# Altium footprint library 2019-12-12_14-39-05.PcbLib: 1 footprints
Each footprint in its own frame and in the unit in brackets; x right, y up, seen from the top. Pads: shape width x height; smd on the part's side, far side on the other; paste and mask are expansions set on the pad; w line width, h text height; cw(c..) or ccw(c..) is an arc to the next point about the centre after c.
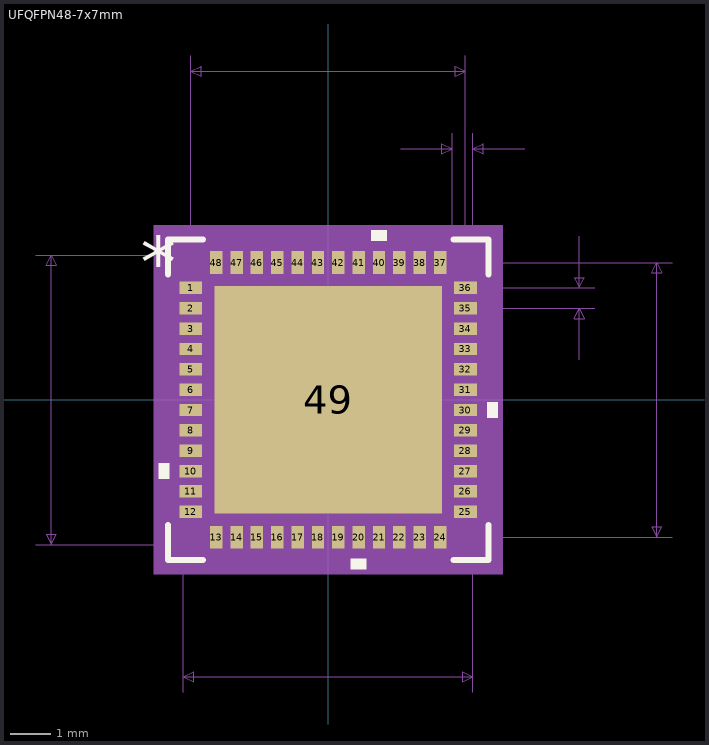
[diagram p0: the footprint, top view; thin cyan lines are the x and y axes]

## UFQFPN48-7x7mm [mil]
pads (49):
  rect 22x12 smd: 1(-132.87,108.3) 2(-132.87,88.61) 3(-132.87,68.92) 4(-132.87,49.23) 5(-132.87,29.54) 6(-132.87,9.85) 7(-132.87,-9.85) 8(-132.87,-29.54) 9(-132.87,-49.23) 10(-132.87,-68.92) 11(-132.87,-88.61) 12(-132.87,-108.3) 25(132.87,-108.3) 26(132.87,-88.61) 27(132.87,-68.92) 28(132.87,-49.23) 29(132.87,-29.54) 30(132.87,-9.85) 31(132.87,9.85) 32(132.87,29.54) 33(132.87,49.23) 34(132.87,68.92) 35(132.87,88.61) 36(132.87,108.3)
  rect 12x22 smd: 13(-108.3,-132.87) 14(-88.61,-132.87) 15(-68.92,-132.87) 16(-49.23,-132.87) 17(-29.54,-132.87) 18(-9.85,-132.87) 19(9.85,-132.87) 20(29.54,-132.87) 21(49.23,-132.87) 22(68.92,-132.87) 23(88.61,-132.87) 24(108.3,-132.87) 37(108.3,132.87) 38(88.61,132.87) 39(68.92,132.87) 40(49.23,132.87) 41(29.54,132.87) 42(9.85,132.87) 43(-9.85,132.87) 44(-29.54,132.87) 45(-49.23,132.87) 46(-68.92,132.87) 47(-88.61,132.87) 48(-108.3,132.87)
  rect 220x220 smd paste-110: 49(0,0)
Top Overlay:
  region: 56.73,153.87 41.73,153.87 41.73,163.87 56.73,163.87
  region: 153.87,-2.35 163.87,-2.35 163.87,-17.34 153.87,-17.34
  region: 37.03,-153.87 22.04,-153.87 22.04,-163.87 37.03,-163.87
  region: -153.87,-61.41 -163.87,-61.41 -163.87,-76.42 -153.87,-76.42
  lines w6: -155,-121.21 -155,-155 -121.21,-155 ; -155,121.21 -155,155 -121.21,155 ; 121.21,-155 155,-155 155,-121.21 ; 121.21,155 155,155 155,121.21
  text "*" at -181.37,108.14 h50
Top Paste:
  drawing of 64 lines, arcs and shapes, not listed
Top Solder:
  drawing of 48 lines, arcs and shapes, not listed
Mechanical 5:
  region: 168.87,-168.87 -168.87,-168.87 -168.87,168.87 168.87,168.87
Mechanical 7:
  lines w1: -282.87,-140 140,-140 ; -282.87,140 140,140 140,-282.87 ; -140,-282.87 -140,140 ; -132.87,108.3 -132.87,332.87 ; 70,242.87 120,242.87 ; 108.3,-132.87 332.87,-132.87 ; 108.3,132.87 332.87,132.87 ; 120,108.3 120,257.87 ; 132.87,88.61 257.87,88.61 ; 132.87,332.87 132.87,108.3 257.87,108.3 ; 140,108.3 140,257.87 ; 190,242.87 140,242.87 ; 242.87,38.6 242.87,88.61 ; 242.87,158.29 242.87,108.3 ; -267.87,-140 -262.87,-130 -272.87,-130 -267.87,-140 ; -267.87,-140 -267.87,140 ; -267.87,140 -262.87,130 -272.87,130 -267.87,140 ; -140,-267.87 -130,-272.87 -130,-262.87 -140,-267.87 ; -140,-267.87 140,-267.87 ; -132.87,317.87 -122.87,312.87 -122.87,322.87 -132.87,317.87 ; -132.87,317.87 132.87,317.87 ; 120,242.87 110,237.87 110,247.87 120,242.87 ; 132.87,317.87 122.87,312.87 122.87,322.87 132.87,317.87 ; 140,-267.87 130,-272.87 130,-262.87 140,-267.87 ; 140,242.87 150,237.87 150,247.87 140,242.87 ; 242.87,88.61 247.87,78.61 237.87,78.61 242.87,88.61 ; 242.87,108.3 247.87,118.3 237.87,118.3 242.87,108.3 ; 317.87,-132.87 322.87,-122.87 312.87,-122.87 317.87,-132.87 ; 317.87,-132.87 317.87,132.87 ; 317.87,132.87 322.87,122.87 312.87,122.87 317.87,132.87
  text "0.28in/7.112mm" at -87.5,-312.87 h25
  text "0.28in/7.112mm" at -462.87,-12.5 h25
  text "0.266in/6.75mm" at 337.87,-12.5 h25
  text "0.266in/6.75mm" at -87.5,337.87 h25
  text "0.02in/0.508mm" at 42.5,262.87 h25
  text "0.02in/0.5mm" at 262.87,85.95 h25
  text "Alt 2 Padstyle: OX90Y60D30P" at -337.5,-632.87 h50
  text "Alt 1 Padstyle: OX60Y90D30P" at -337.5,-572.87 h50
  text "Heat Tab Padstyle: RX220Y220D0T" at -387.5,-452.87 h50
  text "Default Padstyle: RX12Y22D0T" at -350,-392.87 h50
Mechanical 13:
  lines w1: -140,90 -90,140 ; -140,-140 -140,140 140,140 140,-140 -140,-140 ; -140,-114.3 -140,-102.3 -140,-114.3 ; -140,-94.61 -140,-82.61 -140,-94.61 ; -140,-74.92 -140,-62.91 -140,-74.92 ; -140,-55.23 -140,-43.23 -140,-55.23 ; -140,-35.53 -140,-23.54 -140,-35.53 ; -140,-15.85 -140,-3.85 -140,-15.85 ; -140,3.85 -140,15.85 -140,3.85 ; -140,23.54 -140,35.53 -140,23.54 ; -140,43.23 -140,55.23 -140,43.23 ; -140,62.91 -140,74.92 -140,62.91 ; -140,82.61 -140,94.61 -140,82.61 ; -140,102.3 -140,114.3 -140,102.3 ; -114.3,-140 -102.3,-140 -114.3,-140 ; -114.3,140 -102.3,140 -114.3,140 ; -94.61,-140 -82.61,-140 -94.61,-140 ; -94.61,140 -82.61,140 -94.61,140 ; -74.92,-140 -62.91,-140 -74.92,-140 ; -74.92,140 -62.91,140 -74.92,140 ; -55.23,-140 -43.23,-140 -55.23,-140 ; -55.23,140 -43.23,140 -55.23,140 ; -35.53,-140 -23.54,-140 -35.53,-140 ; -35.53,140 -23.54,140 -35.53,140 ; -15.85,-140 -3.85,-140 -15.85,-140 ; -15.85,140 -3.85,140 -15.85,140 ; 3.85,-140 15.85,-140 3.85,-140 ; 3.85,140 15.85,140 3.85,140 ; 23.54,-140 35.53,-140 23.54,-140 ; 23.54,140 35.53,140 23.54,140 ; 43.23,-140 55.23,-140 43.23,-140 ; 43.23,140 55.23,140 43.23,140 ; 62.91,-140 74.92,-140 62.91,-140 ; 62.91,140 74.92,140 62.91,140 ; 82.61,-140 94.61,-140 82.61,-140 ; 82.61,140 94.61,140 82.61,140 ; 102.3,-140 114.3,-140 102.3,-140 ; 102.3,140 114.3,140 102.3,140 ; 140,-114.3 140,-102.3 140,-114.3 ; 140,-94.61 140,-82.61 140,-94.61 ; 140,-74.92 140,-62.91 140,-74.92 ; 140,-55.23 140,-43.23 140,-55.23 ; 140,-35.53 140,-23.54 140,-35.53 ; 140,-15.85 140,-3.85 140,-15.85 ; 140,3.85 140,15.85 140,3.85 ; 140,23.54 140,35.53 140,23.54 ; 140,43.23 140,55.23 140,43.23 ; 140,62.91 140,74.92 140,62.91 ; 140,82.61 140,94.61 140,82.61 ; 140,102.3 140,114.3 140,102.3
  text "*" at -124.37,93.14 h50
Mechanical 15:
  region: -128.29,-150 -150,-150 -150,-128.29 -148.87,-128.29 -148.87,128.29 -150,128.29 -150,150 -128.29,150 -128.29,148.87 128.29,148.87 128.29,150 150,150 150,128.29 148.87,128.29 148.87,-128.29 150,-128.29 150,-150 128.29,-150 128.29,-148.87 -128.29,-148.87
  lines w6: -150,-150 -128.29,-150 -128.29,-148.87 128.29,-148.87 128.29,-150 150,-150 150,-128.29 148.87,-128.29 148.87,128.29 150,128.29 150,150 128.29,150 128.29,148.87 -128.29,148.87 -128.29,150 -150,150 -150,128.29 -148.87,128.29 -148.87,-128.29 -150,-128.29 -150,-150
3D body "User Library-QFN48-2.step": height 35.43, standoff 0, extent -138.78,-138.78 138.78,138.78
3D body: height 10, standoff 0, extent 0,0 10,10